# Altium schematic symbol library Passive Item.SchLib: 38 symbols
Pins are listed as number, name and electrical type; pins without a type are passive.

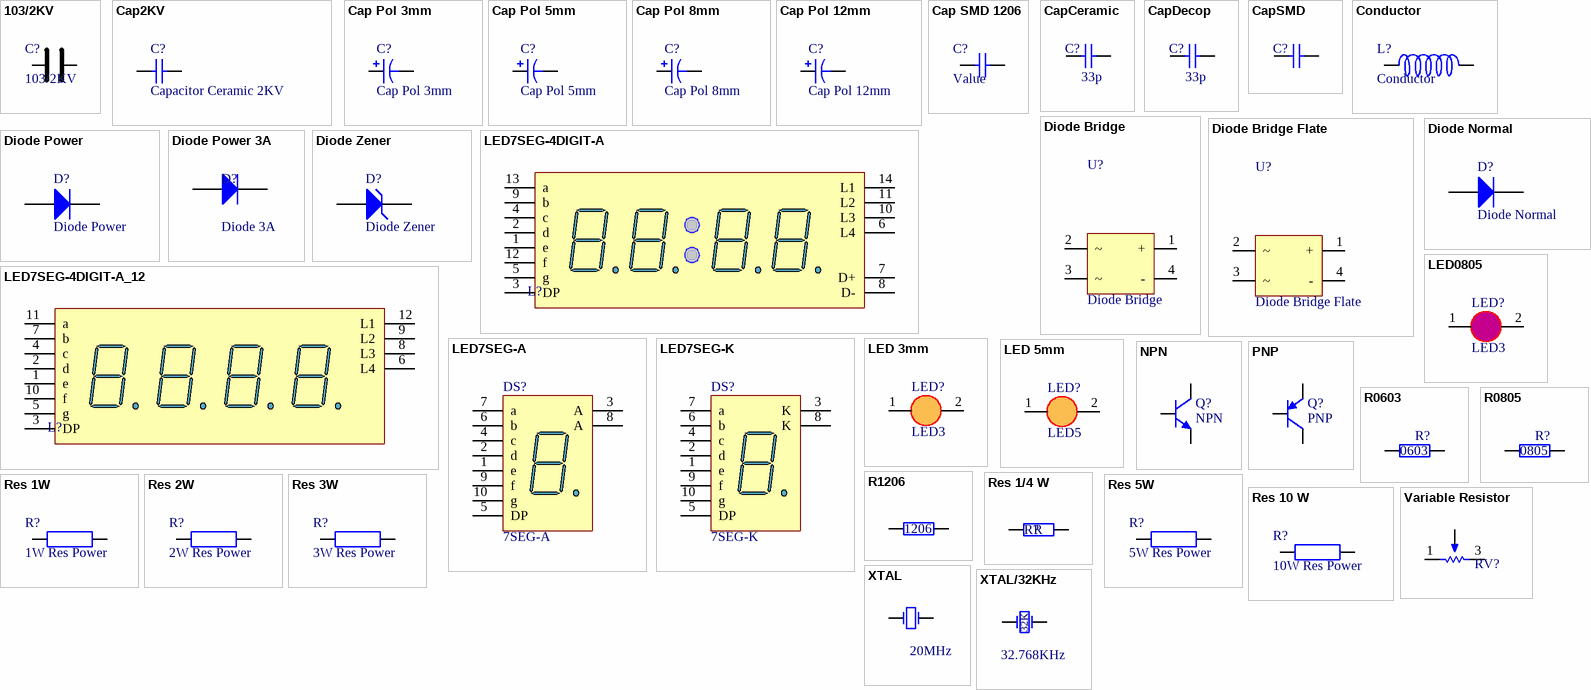
[diagram p0: symbols 103/2KV to XTAL/32KHz]

## 103/2KV
designator C?
footprint 103/2KV
pins: 1, 2

## Cap2KV
designator C?, comment Capacitor Ceramic 2KV
Published: 8-Jun-2000; LatestRevisionDate: 17-Jul-2002; LatestRevisionNote: Re-released for DXP Platform.; PackageReference: RAD-0.3; Publisher: Altium Limited
footprint 103/2KV
pins: 1, 2

## Cap Pol 3mm
designator C?
Polarized Capacitor (Axial); Published: 8-Jun-2000; LatestRevisionDate: 17-Jul-2002; LatestRevisionNote: Re-released for DXP Platform.; PackageReference: POLAR0.8; Publisher: Altium Limited
footprint C3MM
pins: 1, 2
1 alternate drawing of the same symbol

## Cap Pol 5mm
designator C?
Polarized Capacitor (Axial); Published: 8-Jun-2000; LatestRevisionDate: 17-Jul-2002; LatestRevisionNote: Re-released for DXP Platform.; PackageReference: POLAR0.8; Publisher: Altium Limited
footprint C5mm
pins: 1, 2
1 alternate drawing of the same symbol

## Cap Pol 8mm
designator C?
Polarized Capacitor (Axial); Published: 8-Jun-2000; LatestRevisionDate: 17-Jul-2002; LatestRevisionNote: Re-released for DXP Platform.; PackageReference: POLAR0.8; Publisher: Altium Limited
footprint C10mm
pins: 1, 2
1 alternate drawing of the same symbol

## Cap Pol 12mm
designator C?
Polarized Capacitor (Axial); Published: 8-Jun-2000; LatestRevisionDate: 17-Jul-2002; LatestRevisionNote: Re-released for DXP Platform.; PackageReference: POLAR0.8; Publisher: Altium Limited
footprint C10mm
pins: 1, 2
1 alternate drawing of the same symbol

## Cap SMD 1206
designator C?, comment Value
footprint C1206
pins: 1, 2

## CapCeramic
designator C?, comment value 33p  (hidden comment: Capacitor Ceramic)
Capacitor; Published: 8-Jun-2000; LatestRevisionDate: 17-Jul-2002; LatestRevisionNote: Re-released for DXP Platform.; PackageReference: RAD-0.3; Publisher: Altium Limited
footprint Tu-pico (Tu gom mini)
pins: 1, 2

## CapDecop
designator C?, comment value 33p  (hidden comment: Capacitor Ceramic)
Capacitor; Published: 8-Jun-2000; LatestRevisionDate: 17-Jul-2002; LatestRevisionNote: Re-released for DXP Platform.; PackageReference: RAD-0.3; Publisher: Altium Limited
footprint Tu-ceramic (Tu gom mini)
pins: 1, 2

## CapSMD
designator C?, comment Capacitor Ceramic  (value not drawn)
Capacitor; Value: 33p; Published: 8-Jun-2000; LatestRevisionDate: 17-Jul-2002; LatestRevisionNote: Re-released for DXP Platform.; PackageReference: RAD-0.3; Publisher: Altium Limited
simulation model CAP (Capacitor)
signal-integrity model Cap
footprint C0805 (Chip Resistor; Body 2.0 x 1.3 mm (LxW typ))
pins: 1, 2

## Conductor
designator L?
footprint CUON CAM 200mil
pins: 1, 2

## Diode Bridge
designator U?
footprint DIODE BRIDGE(FLAT) BIG
pins: 1 +, 2 ~, 3 ~, 4 -

## Diode Bridge Flate
designator U?
Diode Bridge
footprint DIODE BRIDGE(FLAT)
pins: 1 +, 2 ~, 3 ~, 4 -

## Diode Normal
designator D?
Published: 8-Jun-2000; LatestRevisionDate: 17-Jul-2002; LatestRevisionNote: Re-released for DXP Platform.; DatasheetDocument: 1997; PackageReference: DO-35; Publisher: Altium Limited; Code_JEDEC: DO-204-AH; ComponentLink1Description: Manufacturer Link; ComponentLink1URL: http://www.fairchildsemi.com/; ComponentLink2Description: Datasheet; ComponentLink2URL: http://www.fairchildsemi.com/ds/1N%2F1N4448.pdf
footprint DIODE/NOM/0.5A
pins: 1 A, 2 K

## Diode Power
designator D?
Published: 8-Jun-2000; LatestRevisionDate: 17-Jul-2002; LatestRevisionNote: Re-released for DXP Platform.; DatasheetDocument: 1998; PackageDocument: Aug-1999; PackageReference: DO-201AD; Publisher: Altium Limited; ComponentLink1Description: Manufacturer Link; ComponentLink1URL: http://www.fairchildsemi.com/; ComponentLink2Description: Datasheet; ComponentLink2URL: http://www.fairchildsemi.com/ds/1N%2F1N5400.pdf
footprint DIODE/POW/1A
pins: 1 A, 2 K

## Diode Power 3A
designator D?, comment Diode 3A
Diode Power; Published: 8-Jun-2000; LatestRevisionDate: 17-Jul-2002; LatestRevisionNote: Re-released for DXP Platform.; DatasheetDocument: 1998; PackageDocument: Aug-1999; PackageReference: DO-201AD; Publisher: Altium Limited; ComponentLink1Description: Manufacturer Link; ComponentLink1URL: http://www.fairchildsemi.com/; ComponentLink2Description: Datasheet; ComponentLink2URL: http://www.fairchildsemi.com/ds/1N%2F1N5400.pdf
footprint DIODE/POW/3A
pins: 1 A, 2 K

## Diode Zener
designator D?
Zener Diode; Published: 8-Jun-2000; LatestRevisionDate: 17-Jul-2002; LatestRevisionNote: Re-released for DXP Platform.; PackageReference: DIODE-0.7; Publisher: Altium Limited
footprint DIODE/NOM/0.5A
pins: 1 A, 2 K

## LED7SEG-4DIGIT-A
designator L?, comment Led 7 Seg 4 digit - Anode  (value not drawn)
footprint LED7SED-4-A
pins: 1 e "Cathode", 2 d "Cathode", 3 DP "Cathode", 4 c "Cathode", 5 g "Cathode", 6 L4 "Common Anode", 7 D+ "Common Anode", 8 D- "Common Anode", 9 b "Cathode", 10 L3 "Common Anode", 11 L2 "Common Anode", 12 f "Cathode", 13 a "Cathode", 14 L1 "Common Anode"

## LED7SEG-4DIGIT-A_12
designator L?, comment Led 7 Seg 4 digit - Anode  (value not drawn)
footprint LED7SED-4-A-12
pins: 1 e "Cathode", 2 d "Cathode", 3 DP "Cathode", 4 c "Cathode", 5 g "Cathode", 6 L4 "Common Anode", 7 b "Cathode", 8 L3 "Common Anode", 9 L2 "Common Anode", 10 f "Cathode", 11 a "Cathode", 12 L1 "Common Anode"

## LED7SEG-A
designator DS?, comment 7SEG-A
14.2 mm General Purpose Blue 7-Segment Display: CA, RH DP, Gray Surface; MinimumIntensity: 2020 ucd; Note: IF = 10 mA; Published: 8-Jun-2000; LatestRevisionDate: 17-Dec-2003; LatestRevisionNote: Schematic revised, PCB Footprint replaced.; DatasheetDocument: 24-Sep-2002; PackageDocument: 24-Sep-2002; PackageReference: H; Publisher: Altium Limited; Colour: Blue; ComponentLink1Description: Manufacturer Link; ComponentLink1URL: http://www.agilent.com/
footprint LED7SEG
pins: 1 e "Cathode", 2 d "Cathode", 3 A "Common Anode", 4 c "Cathode", 5 DP "Cathode", 6 b "Cathode", 7 a "Cathode", 8 A "Common Anode", 9 f "Cathode", 10 g "Cathode"

## LED7SEG-K
designator DS?, comment 7SEG-K
14.2 mm General Purpose Blue 7-Segment Display: CC, RH DP, Gray Surface; MinimumIntensity: 2020 ucd; Note: IF = 10 mA; Published: 8-Jun-2000; LatestRevisionDate: 17-Dec-2003; LatestRevisionNote: Schematic revised, PCB Footprint replaced.; DatasheetDocument: 24-Sep-2002; PackageDocument: 24-Sep-2002; PackageReference: H; Publisher: Altium Limited; Colour: Blue; ComponentLink1Description: Manufacturer Link; ComponentLink1URL: http://www.agilent.com/
footprint LED7SEG
pins: 1 e "Anode", 2 d "Anode", 3 K "Common Cathode", 4 c "Anode", 5 DP "Anode", 6 b "Anode", 7 a "Anode", 8 K "Common Cathode", 9 f "Anode", 10 g "Anode"

## LED0805
designator LED?, comment LED3
LED SMD 0805
footprint LED0805 (Chip Resistor; Body 2.0 x 1.3 mm (LxW typ))
pins: 1 A, 2 K

## LED 3mm
designator LED?, comment LED3
LED 3mm
footprint LED3mm
pins: 1 A, 2 K

## LED 5mm
designator LED?, comment LED5
LED 5mm
footprint LED5MM
pins: 1 A, 2 K

## NPN
designator Q?
NPN General; Published: 8-Jun-2000; LatestRevisionDate: 15-Jan-2003; LatestRevisionNote: PCB Footprint 'BCY-W3/D4.7' replaced; DatasheetDocument: 1997; PackageDocument: Sep-1998; PackageReference: TO-92A; Publisher: Altium Limited; Code_JEDEC: TO-92A; ComponentLink1Description: Manufacturer Link; ComponentLink1URL: http://www.fairchildsemi.com/; ComponentLink2Description: Datasheet; ComponentLink2URL: http://www.fairchildsemi.com/ds/2N%2F2N3904.pdf
footprint TRAN-LOWPOWER (TO, Flat Index; 3 In-Line, Axial Leads; Body Dia. 4.5mm; Leads 0.51 x 0.48 mm (max))
pins: 1 E, 2 C, 3 B

## PNP
designator Q?
PNP General; Published: 8-Jun-2000; LatestRevisionDate: 15-Jan-2003; LatestRevisionNote: PCB Footprint 'BCY-W3/D4.7' replaced; DatasheetDocument: 1997; PackageDocument: Sep-1998; PackageReference: TO-92A; Publisher: Altium Limited; Code_JEDEC: TO-92A; ComponentLink1Description: Manufacturer Link; ComponentLink1URL: http://www.fairchildsemi.com/; ComponentLink2Description: Datasheet; ComponentLink2URL: http://www.fairchildsemi.com/ds/2N%2F2N3906.pdf
footprint TRAN-LOWPOWER (TO, Flat Index; 3 In-Line, Axial Leads; Body Dia. 4.5mm; Leads 0.51 x 0.48 mm (max))
pins: 1 E, 2 C, 3 B

## R0603
designator R?  value 0603  (hidden comment: R0603)
Resistor SMD 0603; Published: 8-Jun-2000; LatestRevisionDate: 17-Jul-2002; LatestRevisionNote: Re-released for DXP Platform.; PackageReference: AXIAL-0.4; Publisher: Altium Limited
simulation model RESISTOR (Resistor)
signal-integrity model Res
footprint DIEN TRO 0805 (Chip Resistor; Body 2.0 x 1.3 mm (LxW typ))
pins: 1, 2

## R0805
designator R?  value 0805  (hidden comment: R0805)
Resistor SMD 0805; Published: 8-Jun-2000; LatestRevisionDate: 17-Jul-2002; LatestRevisionNote: Re-released for DXP Platform.; PackageReference: AXIAL-0.4; Publisher: Altium Limited
simulation model RESISTOR (Resistor)
signal-integrity model Res
footprint DIEN TRO 0805 (Chip Resistor; Body 2.0 x 1.3 mm (LxW typ))
pins: 1, 2

## R1206
designator R?  value 1206  (hidden comment: R1206)
Resistor SMD 1206; Published: 8-Jun-2000; LatestRevisionDate: 17-Jul-2002; LatestRevisionNote: Re-released for DXP Platform.; PackageReference: AXIAL-0.4; Publisher: Altium Limited
simulation model RESISTOR (Resistor)
signal-integrity model Res
footprint R1206
pins: 1, 2

## Res 1/4 W
designator R?, comment value R  (hidden comment: R0.4W)
Resistor; Published: 8-Jun-2000; LatestRevisionDate: 17-Jul-2002; LatestRevisionNote: Re-released for DXP Platform.; PackageReference: AXIAL-0.4; Publisher: Altium Limited
footprint DIEN TRO 1/4 W
simulation model RESISTOR (Resistor)
signal-integrity model Res
pins: 1, 2

## Res 1W
designator R?, comment 1W Res Power
Creator: Nguyen Ba Bien
footprint DIEN TRO 1W (tube) (Dien tro 1W hinh ong)
pins: 1, 2

## Res 2W
designator R?, comment 2W Res Power
Creator: Nguyen Ba Bien
footprint DIEN TRO 2W
pins: 1, 2

## Res 3W
designator R?, comment 3W Res Power
Creator: Nguyen Ba Bien
footprint DIEN TRO 3W (tube) (Dien tro 3W dang ong tru)
pins: 1, 2

## Res 5W
designator R?, comment 5W Res Power
Creator: Nguyen Ba Bien
footprint DIEN TRO 5W
pins: 1, 2

## Res 10 W
designator R?, comment 10W Res Power
Creator: Nguyen Ba Bien
footprint DIEN TRO 10W
pins: 1, 2

## Variable Resistor
designator RV?, comment RV20K  (value not drawn)
Variable Resistor; Sim Note: Enter the Resistance value and the set point into parameter fields.; Set Position: 0.5; Published: 8-Jun-2000; LatestRevisionDate: 17-Jul-2002; LatestRevisionNote: Re-released for DXP Platform.; PackageReference: VR5; Publisher: Altium Limited
footprint RVAR10K (Bien tro vi chinh)
pins: 1, 2, 3
1 alternate drawing of the same symbol

## XTAL
designator Y?, comment 20MHz
Crystal Oscillator; Published: 8-Jun-2000; LatestRevisionDate: 17-Jul-2002; LatestRevisionNote: Re-released for DXP Platform.; PackageReference: R38; Publisher: Altium Limited
footprint XTAL
pins: 1 OSC1, 2 OSC2

## XTAL/32KHz
designator Y?, comment 32.768KHz
Crystal Oscillator; Published: 8-Jun-2000; LatestRevisionDate: 17-Jul-2002; LatestRevisionNote: Re-released for DXP Platform.; PackageReference: R38; Publisher: Altium Limited
footprint XTAL32K (Connector; Header; 2 Position)
pins: 0 hidden to GND, 1 OSC1, 2 OSC2
text: 32K